# Altium footprint library MEAS SPEC MS5611-01BA03.PCBLIB: 1 footprints
Each footprint in its own frame and in the unit in brackets; x right, y up, seen from the top. Pads: shape width x height; smd on the part's side, far side on the other; paste and mask are expansions set on the pad; w line width, h text height; cw(c..) or ccw(c..) is an arc to the next point about the centre after c.
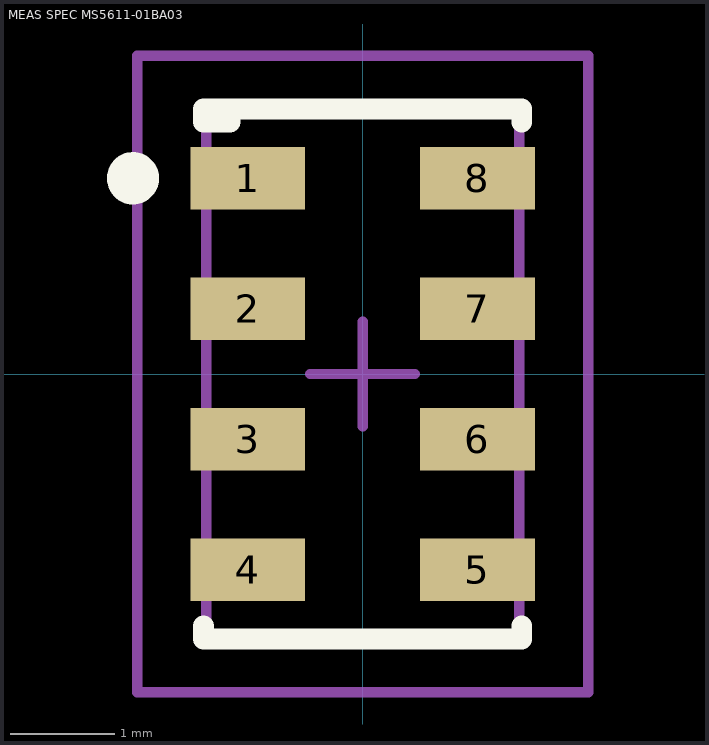
[diagram p0: the footprint, top view; thin cyan lines are the x and y axes]

## MEAS SPEC MS5611-01BA03 [mm] "LCC, 8-Pins, Body 3.0x5.1mm (max), Pitch 1.25mm, IPC Medium Density"
height 1
pads (8):
  rect 1.1x0.6 smd: 1(-1.1,1.875) 2(-1.1,0.625) 3(-1.1,-0.625) 4(-1.1,-1.875) 5(1.1,-1.875) 6(1.1,-0.625) 7(1.1,0.625) 8(1.1,1.875)
Top Overlay:
  circle w0.25: c-2.2,1.875 r0.125
  lines w0.2: -1.524,-2.413 -1.524,-2.54 1.524,-2.54 1.524,-2.413 ; -1.27,2.54 -1.27,2.413 -1.524,2.413 -1.524,2.54 1.524,2.54 1.524,2.413
Mechanical 13:
  lines w0.1: -1.513,2.5 -1.5,2.512 -1.5,-2.5 1.5,-2.5 1.5,2.5 -1.513,2.5
Mechanical 15:
  lines w0.1: -0.5,0 0.5,0 ; 0,-0.5 0,0.5 ; -2.159,-3.048 2.159,-3.048 2.159,3.048 -2.159,3.048 -2.159,-3.048
3D body "MS5611.STEP": height 1, standoff 0, extent -1.5,-2.5 1.5,2.5